# EAGLE library part DRV8432DKDR (library DRV8432DKDR)
12A Dual Brushed DC or Single Bipolar Stepper Motor Driver (PWM Ctrl) Source: Datasheet <http://www.ti.com/lit/gpn/drv8432>
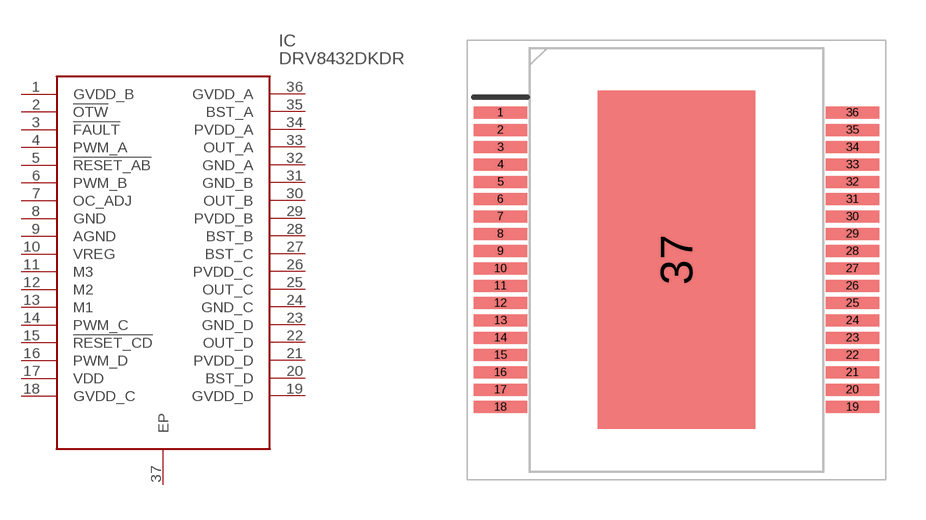
[diagram p0: symbol with the pads of SOP65P1420X360-37N; footprint SOP65P1420X360-37N]

Designator prefix IC

## DRV8432DKDR (Description: 12A Dual Brushed DC or Single Bipolar Stepper Motor Driver (PWM Ctrl); Height: 3.6mm; Manufacturer_Name: Texas Instruments; Manufacturer_Part_Number: DRV8432DKDR)  [SOP65P1420X360-37N]
1  GVDD_B
2  !OTW
3  !FAULT
4  PWM_A
5  !RESET_AB
6  PWM_B
7  OC_ADJ
8  GND
9  AGND
10  VREG
11  M3
12  M2
13  M1
14  PWM_C
15  !RESET_CD
16  PWM_D
17  VDD
18  GVDD_C
19  GVDD_D
20  BST_D
21  PVDD_D
22  OUT_D
23  GND_D
24  GND_C
25  OUT_C
26  PVDD_C
27  BST_C
28  BST_B
29  PVDD_B
30  OUT_B
31  GND_B
32  GND_A
33  OUT_A
34  PVDD_A
35  BST_A
36  GVDD_A
37  EP

## Footprint SOP65P1420X360-37N (pad centres in mm)
DKD0036A
smd 2 x 0.45: 1 -6.6,5.525; 2 -6.6,4.875; 3 -6.6,4.225; 4 -6.6,3.575; 5 -6.6,2.925; 6 -6.6,2.275; 7 -6.6,1.625; 8 -6.6,0.975; 9 -6.6,0.325; 10 -6.6,-0.325; 11 -6.6,-0.975; 12 -6.6,-1.625; 13 -6.6,-2.275; 14 -6.6,-2.925; 15 -6.6,-3.575; 16 -6.6,-4.225; 17 -6.6,-4.875; 18 -6.6,-5.525; 19 6.6,-5.525; 20 6.6,-4.875; 21 6.6,-4.225; 22 6.6,-3.575; 23 6.6,-2.925; 24 6.6,-2.275; 25 6.6,-1.625; 26 6.6,-0.975; 27 6.6,-0.325; 28 6.6,0.325; 29 6.6,0.975; 30 6.6,1.625; 31 6.6,2.275; 32 6.6,2.925; 33 6.6,3.575; 34 6.6,4.225; 35 6.6,4.875; 36 6.6,5.525
smd 5.9 x 12.7: 37 0,0